# EAGLE library part TFTLCD (library ese323)
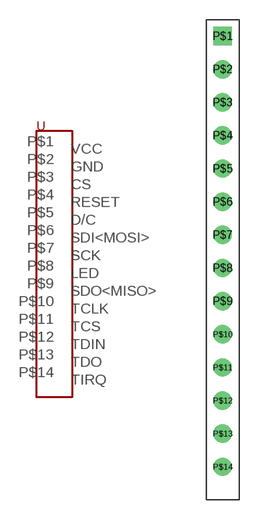
[diagram p0: symbol with the pads of TFTLCD; footprint TFTLCD]

Designator prefix -

## TFTLCDTFTLCD-DEV  [TFTLCD]
P$1  VCC  pwr
P$2  GND  pwr
P$3  CS  out
P$4  RESET  in
P$5  D/C  out
P$6  SDI<MOSI>  out
P$7  SCK  out
P$8  LED  in
P$9  SDO<MISO>  in
P$10  TCLK  in
P$11  TCS  in
P$12  TDIN  in
P$13  TDO  in
P$14  TIRQ  in

## Footprint TFTLCD (pad centres in mm)
drill 0.9 pad 1.27 square: P$1 0,12.7
drill 0.9 pad 1.27: P$2 0,10.16; P$3 0,7.62; P$4 0,5.08; P$5 0,2.54; P$6 0,0; P$7 0,-2.54; P$8 0,-5.08; P$9 0,-7.62; P$10 0,-10.16; P$11 0,-12.7; P$12 0,-15.24; P$13 0,-17.78; P$14 0,-20.32